# EAGLE library part MOUDLE-BLUETOOTH-AUDIO-RN52-I/RM(50P-26X13.5MM) (library Seeed-OPL-Moudle)
317030023
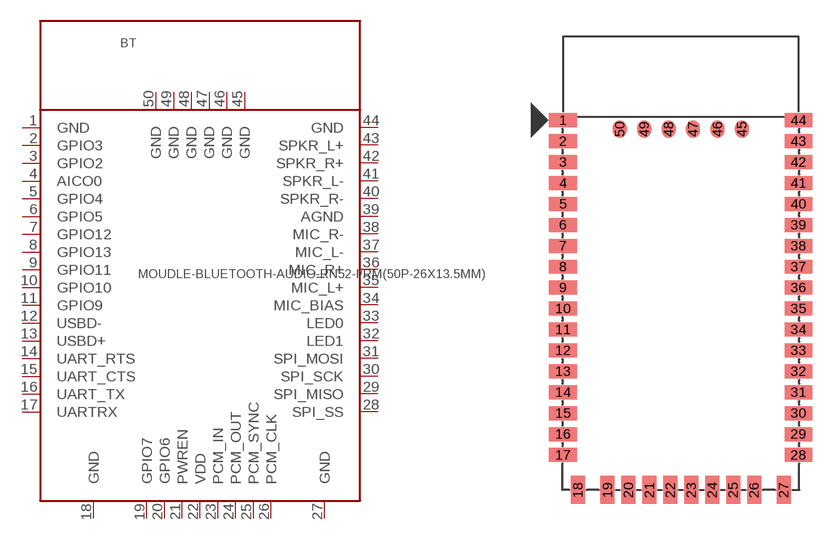
[diagram p5: symbol with the pads of LGA50-1.0-26X13.5MM; footprint LGA50-1.0-26X13.5MM]

Designator prefix BT

## MOUDLE-BLUETOOTH-AUDIO-RN52-I/RM(50P-26X13.5MM) (MPN: RN52-I/RM; VALUE: RN52-I/RM)  [LGA50-1.0-26X13.5MM]
1  GND
2  GPIO3
3  GPIO2
4  AICO0
5  GPIO4
6  GPIO5
7  GPIO12
8  GPIO13
9  GPIO11
10  GPIO10
11  GPIO9
12  USBD-
13  USBD+
14  UART_RTS
15  UART_CTS
16  UART_TX
17  UARTRX
18  GND
19  GPIO7
20  GPIO6
21  PWREN
22  VDD
23  PCM_IN
24  PCM_OUT
25  PCM_SYNC
26  PCM_CLK
27  GND
28  SPI_SS
29  SPI_MISO
30  SPI_SCK
31  SPI_MOSI
32  LED1
33  LED0
34  MIC_BIAS
35  MIC_L+
36  MIC_R+
37  MIC_L-
38  MIC_R-
39  AGND
40  SPKR_R-
41  SPKR_L-
42  SPKR_R+
43  SPKR_L+
44  GND
45  GND
46  GND
47  GND
48  GND
49  GND
50  GND

## Footprint LGA50-1.0-26X13.5MM (pad centres in mm)
smd 1.6 x 0.8: 1 -6.75,8.2; 2 -6.75,7; 3 -6.75,5.8; 4 -6.75,4.6; 5 -6.75,3.4; 6 -6.75,2.2; 7 -6.75,1; 8 -6.75,-0.2; 9 -6.75,-1.4; 10 -6.75,-2.6; 11 -6.75,-3.8; 12 -6.75,-5; 13 -6.75,-6.2; 14 -6.75,-7.4; 15 -6.75,-8.6; 16 -6.75,-9.8; 17 -6.75,-11; 28 6.75,-11; 29 6.75,-9.8; 30 6.75,-8.6; 31 6.75,-7.4; 32 6.75,-6.2; 33 6.75,-5; 34 6.75,-3.8; 35 6.75,-2.6; 36 6.75,-1.4; 37 6.75,-0.2; 38 6.75,1; 39 6.75,2.2; 40 6.75,3.4; 41 6.75,4.6; 42 6.75,5.8; 43 6.75,7; 44 6.75,8.2
smd 0.8 x 1.6: 18 -5.9,-13; 19 -4.2,-13; 20 -3,-13; 21 -1.8,-13; 22 -0.6,-13; 23 0.6,-13; 24 1.8,-13; 25 3,-13; 26 4.2,-13; 27 5.9,-13
smd 0.8 x 1: 45 3.5,7.7; 46 2.1,7.7; 47 0.7,7.7; 48 -0.7,7.7; 49 -2.1,7.7; 50 -3.5,7.7